# Altium schematic symbol library 60V_Ind_1.SCHLIB: 6 symbols
Pins are listed as number, name and electrical type; pins without a type are passive.

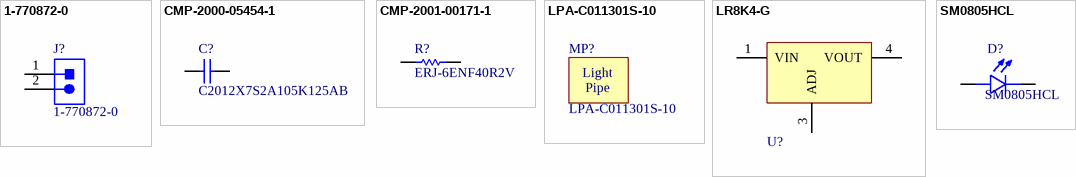
[diagram p0: symbols 1-770872-0 to SM0805HCL]

## 1-770872-0
designator J?
Connector Header Through Hole 2 position 0.163" (4.14mm); Vendor: TE Connectivity; Built_By: EMA_UL_Team; Manufacturer_Part_Number: 1-770872-0; Copyright: Copyright (C) 2018 Accelerated Designs. All rights reserved; RefDes: RefDes; Type: DEV; Value: Value; Supplier 1: Digi-Key
footprint CON2_1X2_P163_VM
pins: 1, 2

## CMP-2000-05454-1
designator C?, comment C2012X7S2A105K125AB
Chip Capacitor, 1 uF, +/- 10%, 100 V, -55 to 125 degC, 0805 (2012 Metric), RoHS, Tape and Reel; PCN Part Number: MLCCPartNumberChange30/Nov/2012; Manufacturer: TDK; Other Names: 445-5205-1; Online Catalog: CSeries,MidVoltage; Capacitance: 1µF; Voltage - Rated: 100V; Temperature Coefficient: X7S; Featured Product: Compact,High-CapacitanceMultilayerCeramicChipCapacitorsMidVoltageX7S-100VMLCCsC-SeriesMidVoltageMLCCs; Kits: 445-9009-KIT-ND-KITCAPCERHICAP100V-630VSMDSAMPLEKIT1008-ND-KITCAPCERMLCC100V-630V; Catalog Drawings: CSERIES_2012-0805_1.45; Product Training Modules: SEAT,CCV,andTVCLDesignToolsCSeriesMidVoltageCapacitorsFamilyGuidetoReplacinganElectrolyticCapacitorwithanMLCC; Manufacturer URL: http://www.tdk.com/; Series: C; Ratings: -; Datasheet Version: Sep-13; Operating Temperature: -55degC~125degC; Lead Spacing: -; RoHS Information: RoHSCertificate-MLCC; Mounting Type: SurfaceMount,MLCC; Package Reference: 805; Thickness (Max): 0.053"(1.35mm); Category: Capacitors; Lead Style: -; Package Description: 2-Pin Surface Mount Device, Body 2 x 1.25 mm; Family: CeramicCapacitors; Features: -; Applications: GeneralPurpose; Package / Case: 0805(2012Metric); Standard Package: 1; Size / Dimension: 0.079"Lx0.049"W(2.00mmx1.25mm); Height - Seated (Max): -; Datasheet URL: https://datasheet.ciiva.com/24216/c2012x7s2a105k125ab-265082-24216433.pdf; Tolerance: ±10%; Packaging: CutTape(CT); Manufacturer 1: TDK; Manufacturer Part Number 1: C2012X7S2A105K125AB
footprint CAPC2013X145X20ML20 (Chip Capacitor, 2-Leads, Body 2.20x1.45mm, IPC Low Density)
footprint CAPC2013X145X20NL20 (Chip Capacitor, 2-Leads, Body 2.20x1.45mm, IPC Medium Density)
footprint CAPC2013X145X20LL20 (Chip Capacitor, 2-Leads, Body 2.20x1.45mm, IPC High Density)
pins: 1, 2

## CMP-2001-00171-1
designator R?, comment ERJ-6ENF40R2V
Manufacturer: Panasonic; Part Number: ERJ-6ENF40R2V; Manufacturer 1: Panasonic; Manufacturer Part Number 1: ERJ-6ENF40R2V
footprint RESC2013X70X40LL20T20 (Chip Resistor, 2-Leads, Body 2.00x1.25mm, IPC High Density)
footprint RESC2013X70X40ML20T20 (Chip Resistor, 2-Leads, Body 2.00x1.25mm, IPC Low Density)
footprint RESC2013X70X40NL20T20 (Chip Resistor, 2-Leads, Body 2.00x1.25mm, IPC Medium Density)
pins: 1, 2
1 alternate drawing of the same symbol

## LPA-C011301S-10
designator MP?
Light Pipe Single Clear Rigid Round with Flat Top, 3mm Board Mount, Press Fit; Supplier 1: Digi-Key; Supplier Part Number 1: 67-1833-ND
footprint LPA-C011301S-10
text: Light; Pipe

## LR8K4-G
designator U?  (value not drawn)
Linear Voltage Regulator IC Positive Adjustable 1 Output  10mA TO-252, (D-Pak); Supplier 1: Digi-Key; Supplier Part Number 1: LR8K4-GCT-ND
footprint Microchip_C04-189_MFG
pins: 1 VIN (power), 3 ADJ, 4 VOUT (power)

## SM0805HCL
designator D?
Red 631nm LED Indication - Discrete 1.9V 0805 (2012 Metric); Supplier 1: Digi-Key; Supplier Part Number 1: 492-2281-1-ND
footprint LEDC2012X135N_SM0805UGC(Primary)
pins: A, C